# EAGLE library part EA_DOGM128-6 (library ea_v66)
ELECTRONIC ASSEMBLY GmbH EA DOGM128B-6 EA DOGM128E-6 EA DOGM128L-6 EA DOGM128S-6 EA DOGM128W-6
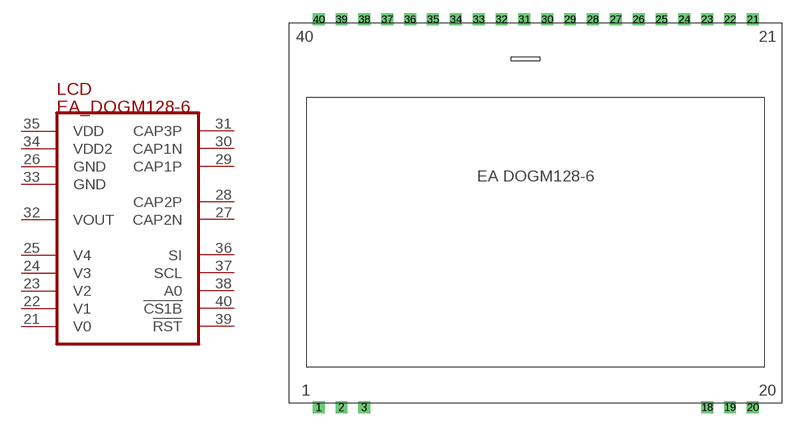
[diagram p4: symbol with the pads of EA_DOGM128-6; footprint EA_DOGM128-6]

Designator prefix LCD

## EA_DOGM128-6  [EA_DOGM128-6]
21  V0  in
22  V1  in
23  V2  pas
24  V3  pas
25  V4  pas
26  GND
27  CAP2N
28  CAP2P
29  CAP1P
30  CAP1N
31  CAP3P
32  VOUT  pas
33  GND
34  VDD2  pwr
35  VDD  pwr
36  SI
37  SCL  in
38  A0  in
39  !RST!  in
40  !CS1B!  in

## Footprint EA_DOGM128-6 (pad centres in mm)
EA DOGM128-6 Grafikdisplay COG 128x64 Pixel inkl.Kontroller Hersteller: ELECTRONIC ASSEMBLY GmbH http://www.lcd-module.de
drill 0.813 square: 1 0,0; 2 2.54,0; 3 5.08,0; 18 43.18,0; 19 45.72,0; 20 48.26,0; 21 48.26,43.18; 22 45.72,43.18; 23 43.18,43.18; 24 40.64,43.18; 25 38.1,43.18; 26 35.56,43.18; 27 33.02,43.18; 28 30.48,43.18; 29 27.94,43.18; 30 25.4,43.18; 31 22.86,43.18; 32 20.32,43.18; 33 17.78,43.18; 34 15.24,43.18; 35 12.7,43.18; 36 10.16,43.18; 37 7.62,43.18; 38 5.08,43.18; 39 2.54,43.18; 40 0,43.18